# Altium schematic symbol library K104K15X7RF5TH5.SchLib: 1 symbol
Pins are listed as number, name and electrical type; pins without a type are passive.

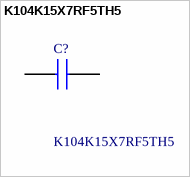
[diagram p0: symbol K104K15X7RF5TH5]

## K104K15X7RF5TH5
designator C?
Vishay K104K15X7RF5TH5 100nF Multilayer Ceramic Capacitor MLCC 50V dc +/-10% Tolerance Through Hole; Geometry.Height: 6.6mm; Mouser Part Number: 594-K104K15X7RF5TH5; Mouser Price/Stock: https://www.mouser.co.uk/ProductDetail/Vishay-BC-Components/K104K15X7RF5TH5?qs=CuWZN%2F5Vbiofhf%252BuZNGw%2Fg%3D%3D; Manufacturer_Name: Vishay; Manufacturer_Part_Number: K104K15X7RF5TH5; Datasheet Link: https://www.vishay.com/docs/45171/kseries.pdf
footprint K104K15X7RF5TH5
pins: 1, 2